# Altium footprint library PcbLib_IC.PcbLib: 42 footprints (part 3 of 3)
Each footprint in its own frame and in the unit in brackets; x right, y up, seen from the top. Pads: shape width x height; smd on the part's side, far side on the other; paste and mask are expansions set on the pad; w line width, h text height; cw(c..) or ccw(c..) is an arc to the next point about the centre after c.
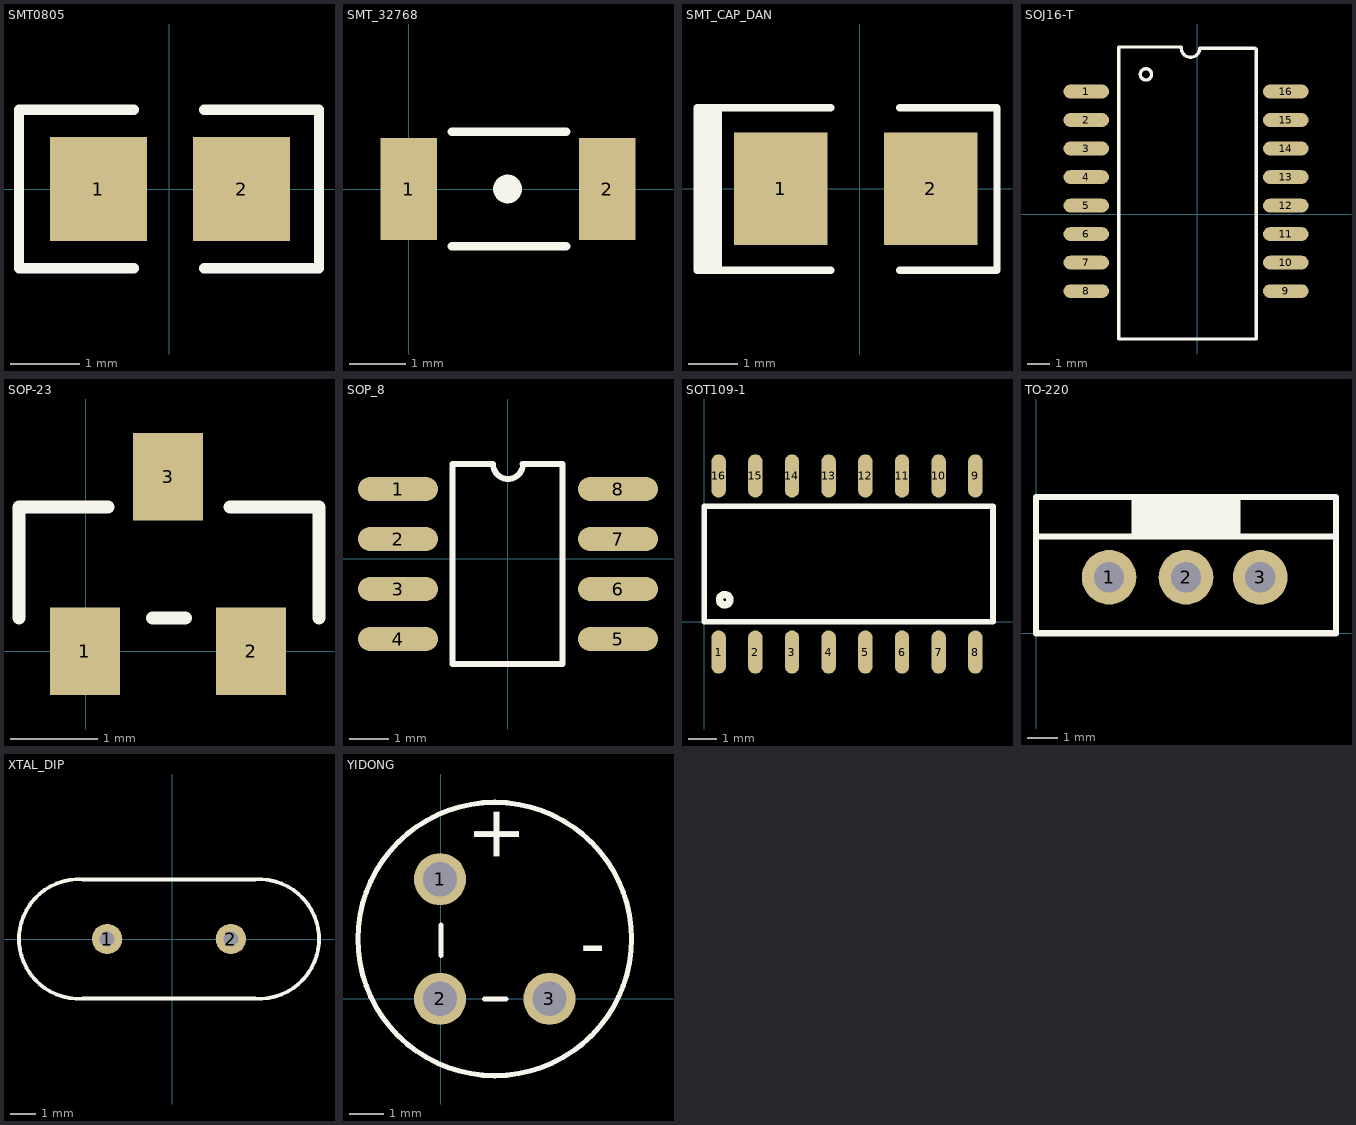
[diagram p2: the footprints below, top view; thin cyan lines are the x and y axes]

## SMT0805 [mm]
pads (2):
  rect 1.4x1.5 smd: 1(-1.016,0) 2(1.044,0)
Top Overlay:
  lines w0.15: -0.508,-1.143 -2.159,-1.143 -2.159,1.143 -0.508,1.143 ; 0.508,-1.143 2.159,-1.143 2.159,1.143 0.508,1.143

## SMT_32768 [mm]
height 3
pads (2):
  rect 1x1.8 smd: 1(0,0) 2(3.516,0)
Top Overlay:
  circle w0.254: c1.75,0 r0.127
  lines w0.15: 0.762,-1.016 2.794,-1.016 ; 0.762,1.016 2.794,1.016

## SMT_CAP_DAN [mil]
pads (2):
  rect 75x90 smd: 1(-62.98,0) 2(57.02,0)
Top Overlay:
  rectangle: -130,-65 -110,64.9
  lines w5.91: -22.98,-65.1 -130,-65.1 -130,64.9 -22.98,64.9 ; 32.02,-65 110,-65 110,64.9 32.02,64.9

## SOJ16-T [mil]
pads (16):
  oval 80x24 smd: 1(-194.56,214.99) 2(-194.56,164.99) 3(-194.56,114.99) 4(-194.56,64.99) 5(-194.56,14.99) 6(-194.56,-35.01) 7(-194.56,-85.01) 8(-194.56,-135.01) 9(155.44,-135.01) 10(155.44,-85.01) 11(155.44,-35.01) 12(155.44,14.99) 13(155.44,64.99) 14(155.44,114.99) 15(155.44,164.99) 16(155.44,214.99)
Top Overlay:
  circle w5.91: c-89.85,245 r9.85
  lines w5.91: -27.63,290.99 ccw(c-11.56,290.99) 4.51,290.99 101.44,290.99 103.44,288.99 103.44,-219.01 -137.56,-219.01 -137.56,292.99 -27.63,292.99

## SOP-23 [mm]
pads (3):
  rect 0.8x1 smd: 1(-0.008,0) 2(1.892,0) 3(0.942,2)
Top Overlay:
  lines w0.15: -0.762,0.381 -0.762,1.651 0.254,1.651 ; 0.762,0.381 1.143,0.381 ; 1.651,1.651 2.667,1.651 2.667,0.381

## SOP_8 [mil]
pads (8):
  oval 80x24 smd: 1(-109.56,69.99) 2(-109.56,19.99) 3(-109.56,-30.01) 4(-109.56,-80.01) 5(110.44,-80.01) 6(110.44,-30.01) 7(110.44,19.99) 8(110.44,69.99)
Top Overlay:
  lines w5.91: -15,94.99 -55,94.99 -55,-105.01 55,-105.01 55,94.99 15,94.99 ; -14.56,94.99 ccw(c0.44,94.99) 15.44,94.99

## SOT109-1 [mm]
pads (16):
  oval 0.5x1.5 smd: 1(0.5,-1.05) 2(1.77,-1.05) 3(3.04,-1.05) 4(4.31,-1.05) 5(5.58,-1.05) 6(6.85,-1.05) 7(8.12,-1.05) 8(9.39,-1.05) 9(9.39,5.05) 10(8.12,5.05) 11(6.85,5.05) 12(5.58,5.05) 13(4.31,5.05) 14(3.04,5.05) 15(1.77,5.05) 16(0.5,5.05)
Top Overlay:
  circle w0.254: c0.709,0.762 r0.18
  lines w0.2: 0,0 0,4 10,4 10,0 0,0

## TO-220 [mm]
pads (3):
  round 1.8 hole 1: 1(2.41,1.85) 2(4.95,1.85) 3(7.4,1.85)
Top Overlay:
  rectangle: 3.15,3.2 6.75,4.572
  lines w0.2: 0,3.2 9.9,3.2 ; 0,0 9.9,0 9.9,4.5 0,4.5 0,0

## XTAL_DIP [mm]
pads (2):
  round 1.2 hole 0.6: 1(-2.567,0) 2(2.313,0)
Top Overlay:
  lines w0.15: -3.527,-2.35 cw(c-3.683,0) -3.527,2.35 3.273,2.35 cw(c3.429,0) 3.273,-2.35 -3.527,-2.35

## YIDONG [mil]
height 196.85
pads (3):
  round 60 hole 39.37: 1(-0.99,137.9) 2(-0.99,0.1) 3(124.99,0.1)
Top Overlay:
  circle w5.91: c62,69 r157.48
  lines w5.91: 0,50 0,85 ; 50,0 75,0
  text "+" at 90,155 h60
  text "-" at 190,80 h60